# Altium integrated library Diodes - TVS.IntLib: 5379 symbols (part 77 of 122)
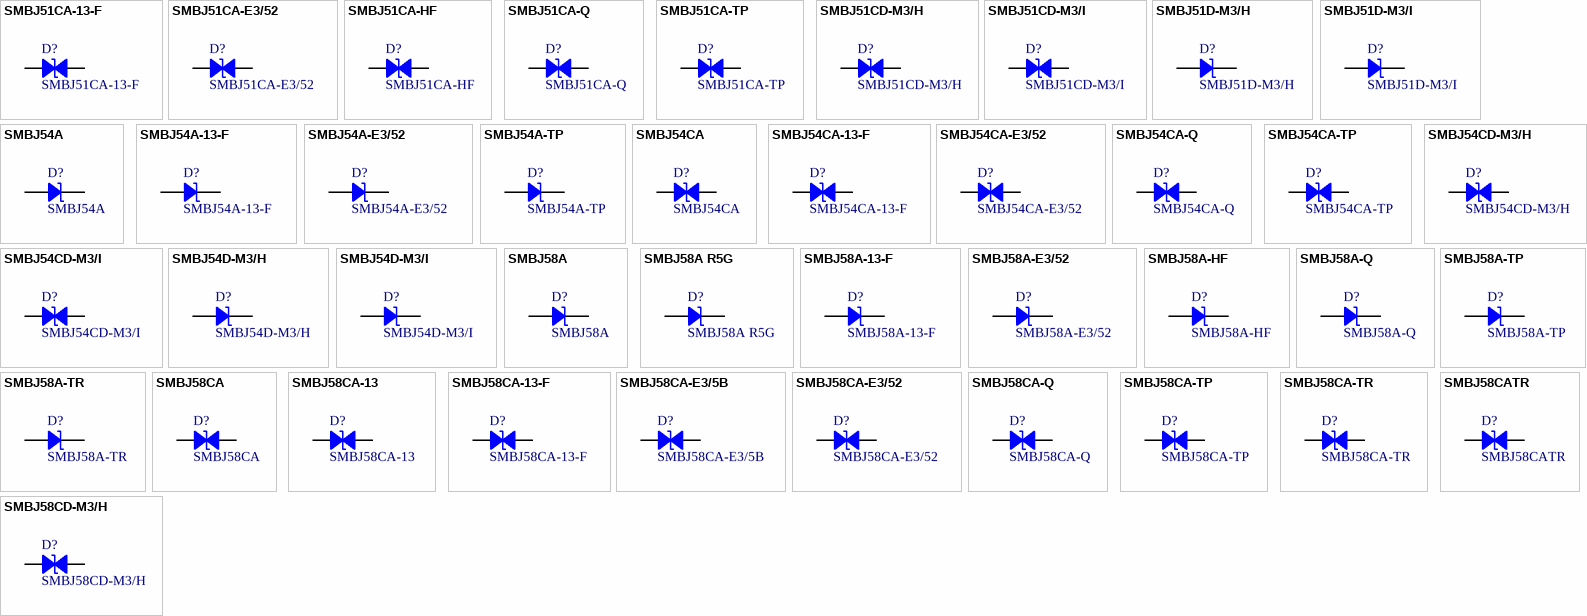
[diagram p210: symbols SMBJ51CA-13-F to SMBJ58CD-M3/H]

## SMBJ51D-M3/I
designator D?
TVS DIODE 51V 81.2V DO214AA; Manufacturer: Vishay Semiconductor Diodes Division; Current - Peak Pulse (10/1000µs): 7.4A; Power Line Protection: No; Power - Peak Pulse: 600W; Type: Zener; Unidirectional Channels: 1; Voltage - Breakdown (Min): 57.6V; Part Number: SMBJ51D-M3/I; Applications: General Purpose; ComponentLink1Description: Datasheet; ComponentLink1URL: http://www.vishay.com/docs/87606/87606.pdf; ComponentLink2Description: DigiKey Link; ComponentLink2URL: http://digikey.com/product-detail/en/vishay-semiconductor-diodes-division/SMBJ51D-M3-I/SMBJ51D-M3-IGICT-ND/9648434; LastUpdated: 9/2/2020 1:19:47 AM; Lifecycle Status: Active; Minimum Order: 1; Mounting Type: Surface Mount; Operating Temperature: -55°C ~ 150°C (TJ); Package / Case: DO-214AA, SMB; Packaging: TapeAndReel; PartId: 10960; Part Status: Active; Price: 0.11; Series: TransZorb®; Supplier 1: DigiKey; Supplier Part Number 1: SMBJ51D-M3/IGICT-ND; Supplier Device Package: DO-214AA (SMBJ); Voltage - Clamping (Max) @ Ipp: 81.2V; Voltage - Reverse Standoff (Typ): 51V
footprint DO214AA SMB
pins: 1, 2

## SMBJ54A
designator D?
TVS DIODE 54V 87.1V SMB; Manufacturer: Bourns Inc.; Current - Peak Pulse (10/1000µs): 6.9A; Power Line Protection: No; Power - Peak Pulse: 600W; Type: Zener; Unidirectional Channels: 1; Voltage - Breakdown (Min): 60V; Part Number: SMBJ54A; Applications: General Purpose; ComponentLink1Description: Datasheet; ComponentLink1URL: https://www.bourns.com/docs/Product-Datasheets/SMBJ.pdf; ComponentLink2Description: DigiKey Link; ComponentLink2URL: http://digikey.com/product-detail/en/bourns-inc/SMBJ54A/SMBJ54ABCT-ND/2254187; LastUpdated: 9/2/2020 1:19:47 AM; Lifecycle Status: Active; Minimum Order: 1; Mounting Type: Surface Mount; Operating Temperature: -55°C ~ 150°C (TJ); Package / Case: DO-214AA, SMB; Packaging: TapeAndReel; PartId: 10924; Part Status: Active; Price: 0.10; Series: SMBJ; Supplier 1: DigiKey; Supplier Part Number 1: SMBJ54ABCT-ND; Supplier Device Package: SMB (DO-214AA); Voltage - Clamping (Max) @ Ipp: 87.1V; Voltage - Reverse Standoff (Typ): 54V
footprint DO214AA SMB
pins: 1, 2

## SMBJ54A-13-F
designator D?
TVS DIODE 54V 87.1V SMB; Manufacturer: Diodes Incorporated; Current - Peak Pulse (10/1000µs): 6.9A; Power Line Protection: No; Power - Peak Pulse: 600W; Type: Zener; Unidirectional Channels: 1; Voltage - Breakdown (Min): 60V; Part Number: SMBJ54A-13-F; Applications: General Purpose; ComponentLink1Description: Datasheet; ComponentLink1URL: https://www.diodes.com/assets/Datasheets/ds19002.pdf; ComponentLink2Description: DigiKey Link; ComponentLink2URL: http://digikey.com/product-detail/en/diodes-incorporated/SMBJ54A-13-F/SMBJ54A-FDICT-ND/768845; LastUpdated: 9/2/2020 1:19:50 AM; Lifecycle Status: Active; Minimum Order: 1; Mounting Type: Surface Mount; Operating Temperature: -55°C ~ 150°C (TJ); Package / Case: DO-214AA, SMB; Packaging: TapeAndReel; PartId: 11241; Part Status: Active; Price: 0.09; Series: SMBJ; Supplier 1: DigiKey; Supplier Part Number 1: SMBJ54A-FDICT-ND; Supplier Device Package: SMB; Voltage - Clamping (Max) @ Ipp: 87.1V; Voltage - Reverse Standoff (Typ): 54V
footprint DO214AA SMB
pins: 1, 2

## SMBJ54A-E3/52
designator D?
TVS DIODE 54V 87.1V DO214AA; Manufacturer: Vishay Semiconductor Diodes Division; Current - Peak Pulse (10/1000µs): 6.9A; Power Line Protection: No; Power - Peak Pulse: 600W; Type: Zener; Unidirectional Channels: 1; Voltage - Breakdown (Min): 60V; Part Number: SMBJ54A-E3/52; Applications: General Purpose; ComponentLink1Description: Datasheet; ComponentLink1URL: http://www.vishay.com/docs/88392/smbj.pdf; ComponentLink2Description: DigiKey Link; ComponentLink2URL: http://digikey.com/product-detail/en/vishay-semiconductor-diodes-division/SMBJ54A-E3-52/SMBJ54A-E3-52GICT-ND/3306561; LastUpdated: 9/2/2020 1:19:51 AM; Lifecycle Status: Active; Minimum Order: 1; Mounting Type: Surface Mount; Operating Temperature: -55°C ~ 150°C (TJ); Package / Case: DO-214AA, SMB; Packaging: TapeAndReel; PartId: 11388; Part Status: Active; Price: 0.15; Series: TransZorb®; Supplier 1: DigiKey; Supplier Part Number 1: SMBJ54A-E3/52GICT-ND; Supplier Device Package: DO-214AA (SMBJ); Voltage - Clamping (Max) @ Ipp: 87.1V; Voltage - Reverse Standoff (Typ): 54V
footprint DO214AA SMB
pins: 1, 2

## SMBJ54A-TP
designator D?
TVS DIODE 54V 87.1V DO214AA; Manufacturer: Micro Commercial Co; Current - Peak Pulse (10/1000µs): 6.9A; Power Line Protection: No; Power - Peak Pulse: 600W; Type: Zener; Unidirectional Channels: 1; Voltage - Breakdown (Min): 60V; Part Number: SMBJ54A-TP; Applications: General Purpose; ComponentLink1Description: Datasheet; ComponentLink1URL: https://www.mccsemi.com/pdf/Products/SMBJ5.0-SMBJ440CA(DO-214AA).pdf; ComponentLink2Description: DigiKey Link; ComponentLink2URL: http://digikey.com/product-detail/en/micro-commercial-co/SMBJ54A-TP/SMBJ54A-TPMSCT-ND/1200691; LastUpdated: 9/2/2020 1:19:46 AM; Lifecycle Status: Active; Minimum Order: 1; Mounting Type: Surface Mount; Operating Temperature: -55°C ~ 175°C (TJ); Package / Case: DO-214AA, SMB; Packaging: TapeAndReel; PartId: 10855; Part Status: Active; Price: 0.10; Series: -; Supplier 1: DigiKey; Supplier Part Number 1: SMBJ54A-TPMSCT-ND; Supplier Device Package: DO-214AA (SMB); Voltage - Clamping (Max) @ Ipp: 87.1V; Voltage - Reverse Standoff (Typ): 54V
footprint DO214AA SMB
pins: 1, 2

## SMBJ54CA
designator D?
TVS DIODE 54V 87.1V DO214AA; Manufacturer: Taiwan Semiconductor Corporation; Bidirectional Channels: 1; Current - Peak Pulse (10/1000µs): 6.9A; Power Line Protection: No; Power - Peak Pulse: 600W; Type: Zener; Voltage - Breakdown (Min): 60V; Part Number: SMBJ54CA; Applications: General Purpose; ComponentLink1Description: Datasheet; ComponentLink1URL: https://www.taiwansemi.com/products/datasheet/SMBJ5V0CA_F%20SERIES_A1806.pdf; ComponentLink2Description: DigiKey Link; ComponentLink2URL: http://digikey.com/product-detail/en/taiwan-semiconductor-corporation/SMBJ54CA/SMBJ54CAFSCT-ND/3504452; LastUpdated: 9/2/2020 1:28:17 AM; Lifecycle Status: Active; Minimum Order: 1; Mounting Type: Surface Mount; Operating Temperature: -55°C ~ 150°C (TJ); Package / Case: DO-214AA, SMB; Packaging: TapeAndReel; PartId: 9065; Part Status: Active; Price: 0.15; Series: SMBJ; Supplier 1: DigiKey; Supplier Part Number 1: SMBJ54CAFSCT-ND; Supplier Device Package: DO-214AA (SMB); Voltage - Clamping (Max) @ Ipp: 87.1V; Voltage - Reverse Standoff (Typ): 54V
footprint DO214AA SMB
pins: 1, 2

## SMBJ54CA-13-F
designator D?
TVS DIODE 54V 87.1V SMB; Manufacturer: Diodes Incorporated; Bidirectional Channels: 1; Current - Peak Pulse (10/1000µs): 6.9A; Power Line Protection: No; Power - Peak Pulse: 600W; Type: Zener; Voltage - Breakdown (Min): 60V; Part Number: SMBJ54CA-13-F; Applications: General Purpose; ComponentLink1Description: Datasheet; ComponentLink1URL: https://www.diodes.com/assets/Datasheets/ds19002.pdf; ComponentLink2Description: DigiKey Link; ComponentLink2URL: http://digikey.com/product-detail/en/diodes-incorporated/SMBJ54CA-13-F/SMBJ54CA-FDICT-ND/816085; LastUpdated: 9/2/2020 1:28:18 AM; Lifecycle Status: Active; Minimum Order: 1; Mounting Type: Surface Mount; Operating Temperature: -55°C ~ 150°C (TJ); Package / Case: DO-214AA, SMB; Packaging: TapeAndReel; PartId: 9193; Part Status: Active; Price: 0.10; Series: SMBJ; Supplier 1: DigiKey; Supplier Part Number 1: SMBJ54CA-FDICT-ND; Supplier Device Package: SMB; Voltage - Clamping (Max) @ Ipp: 87.1V; Voltage - Reverse Standoff (Typ): 54V
footprint DO214AA SMB
pins: 1, 2

## SMBJ54CA-E3/52
designator D?
TVS DIODE 54V 87.1V DO214AA; Manufacturer: Vishay Semiconductor Diodes Division; Bidirectional Channels: 1; Current - Peak Pulse (10/1000µs): 6.9A; Power Line Protection: No; Power - Peak Pulse: 600W; Type: Zener; Voltage - Breakdown (Min): 60V; Part Number: SMBJ54CA-E3/52; Applications: General Purpose; ComponentLink1Description: Datasheet; ComponentLink1URL: http://www.vishay.com/docs/88392/smbj.pdf; ComponentLink2Description: DigiKey Link; ComponentLink2URL: http://digikey.com/product-detail/en/vishay-semiconductor-diodes-division/SMBJ54CA-E3-52/SMBJ54CA-E3-52GICT-ND/3306562; LastUpdated: 9/2/2020 1:28:17 AM; Lifecycle Status: Active; Minimum Order: 1; Mounting Type: Surface Mount; Operating Temperature: -55°C ~ 150°C (TJ); Package / Case: DO-214AA, SMB; Packaging: TapeAndReel; PartId: 9015; Part Status: Active; Price: 0.19; Series: TransZorb®; Supplier 1: DigiKey; Supplier Part Number 1: SMBJ54CA-E3/52GICT-ND; Supplier Device Package: DO-214AA (SMBJ); Voltage - Clamping (Max) @ Ipp: 87.1V; Voltage - Reverse Standoff (Typ): 54V
footprint DO214AA SMB
pins: 1, 2

## SMBJ54CA-Q
designator D?
TVS DIODE 54V 87.1V SMB; Manufacturer: Bourns Inc.; Bidirectional Channels: 1; Current - Peak Pulse (10/1000µs): 6.9A; Power Line Protection: No; Power - Peak Pulse: 600W; Type: Zener; Voltage - Breakdown (Min): 60V; Part Number: SMBJ54CA-Q; Applications: Automotive; ComponentLink1Description: Datasheet; ComponentLink1URL: https://www.bourns.com/docs/Product-Datasheets/SMBJ-Q.pdf; ComponentLink2Description: DigiKey Link; ComponentLink2URL: http://digikey.com/product-detail/en/bourns-inc/SMBJ54CA-Q/SMBJ54CA-QCT-ND/10222724; LastUpdated: 9/2/2020 1:28:21 AM; Lifecycle Status: Active; Minimum Order: 1; Mounting Type: Surface Mount; Operating Temperature: -55°C ~ 150°C (TJ); Package / Case: DO-214AA, SMB; Packaging: TapeAndReel; PartId: 9534; Part Status: Active; Price: 0.15; Series: Automotive, AEC-Q101, SMBJ; Supplier 1: DigiKey; Supplier Part Number 1: SMBJ54CA-QCT-ND; Supplier Device Package: SMB (DO-214AA); Voltage - Clamping (Max) @ Ipp: 87.1V; Voltage - Reverse Standoff (Typ): 54V
footprint DO214AA SMB
pins: 1, 2

## SMBJ54CA-TP
designator D?
TVS DIODE 54V 87.1V DO214AA; Manufacturer: Micro Commercial Co; Bidirectional Channels: 1; Current - Peak Pulse (10/1000µs): 6.9A; Power Line Protection: No; Power - Peak Pulse: 600W; Type: Zener; Voltage - Breakdown (Min): 60V; Part Number: SMBJ54CA-TP; Applications: General Purpose; ComponentLink1Description: Datasheet; ComponentLink1URL: https://www.mccsemi.com/pdf/Products/SMBJ5.0-SMBJ440CA(DO-214AA).pdf; ComponentLink2Description: DigiKey Link; ComponentLink2URL: http://digikey.com/product-detail/en/micro-commercial-co/SMBJ54CA-TP/SMBJ54CA-TPMSCT-ND/1200692; LastUpdated: 9/2/2020 1:28:18 AM; Lifecycle Status: Active; Minimum Order: 1; Mounting Type: Surface Mount; Operating Temperature: -55°C ~ 175°C (TJ); Package / Case: DO-214AA, SMB; Packaging: TapeAndReel; PartId: 9186; Part Status: Active; Price: 0.10; Series: -; Supplier 1: DigiKey; Supplier Part Number 1: SMBJ54CA-TPMSCT-ND; Supplier Device Package: DO-214AA (SMB); Voltage - Clamping (Max) @ Ipp: 87.1V; Voltage - Reverse Standoff (Typ): 54V
footprint DO214AA SMB
pins: 1, 2

## SMBJ54CD-M3/H
designator D?
TVS DIODE 54V 85.9V DO214AA; Manufacturer: Vishay Semiconductor Diodes Division; Bidirectional Channels: 1; Current - Peak Pulse (10/1000µs): 7A; Power Line Protection: No; Power - Peak Pulse: 600W; Type: Zener; Voltage - Breakdown (Min): 60.9V; Part Number: SMBJ54CD-M3/H; Applications: General Purpose; ComponentLink1Description: Datasheet; ComponentLink1URL: http://www.vishay.com/docs/87606/87606.pdf; ComponentLink2Description: DigiKey Link; ComponentLink2URL: http://digikey.com/product-detail/en/vishay-semiconductor-diodes-division/SMBJ54CD-M3-H/SMBJ54CD-M3-HGICT-ND/7898013; LastUpdated: 9/2/2020 1:28:17 AM; Lifecycle Status: Active; Minimum Order: 1; Mounting Type: Surface Mount; Operating Temperature: -55°C ~ 150°C (TJ); Package / Case: DO-214AA, SMB; Packaging: TapeAndReel; PartId: 9025; Part Status: Active; Price: 0.16; Series: TransZorb®; Supplier 1: DigiKey; Supplier Part Number 1: SMBJ54CD-M3/HGICT-ND; Supplier Device Package: DO-214AA (SMBJ); Voltage - Clamping (Max) @ Ipp: 85.9V; Voltage - Reverse Standoff (Typ): 54V
footprint DO214AA SMB
pins: 1, 2

## SMBJ54CD-M3/I
designator D?
TVS DIODE 54V 85.9V DO214AA; Manufacturer: Vishay Semiconductor Diodes Division; Bidirectional Channels: 1; Current - Peak Pulse (10/1000µs): 7A; Power Line Protection: No; Power - Peak Pulse: 600W; Type: Zener; Voltage - Breakdown (Min): 60.9V; Part Number: SMBJ54CD-M3/I; Applications: General Purpose; ComponentLink1Description: Datasheet; ComponentLink1URL: http://www.vishay.com/docs/87606/87606.pdf; ComponentLink2Description: DigiKey Link; ComponentLink2URL: http://digikey.com/product-detail/en/vishay-semiconductor-diodes-division/SMBJ54CD-M3-I/SMBJ54CD-M3-IGICT-ND/9648468; LastUpdated: 9/2/2020 1:28:17 AM; Lifecycle Status: Active; Minimum Order: 1; Mounting Type: Surface Mount; Operating Temperature: -55°C ~ 150°C (TJ); Package / Case: DO-214AA, SMB; Packaging: TapeAndReel; PartId: 9005; Part Status: Active; Price: 0.11; Series: TransZorb®; Supplier 1: DigiKey; Supplier Part Number 1: SMBJ54CD-M3/IGICT-ND; Supplier Device Package: DO-214AA (SMBJ); Voltage - Clamping (Max) @ Ipp: 85.9V; Voltage - Reverse Standoff (Typ): 54V
footprint DO214AA SMB
pins: 1, 2

## SMBJ54D-M3/H
designator D?
TVS DIODE 54V 85.9V DO214AA; Manufacturer: Vishay Semiconductor Diodes Division; Current - Peak Pulse (10/1000µs): 7A; Power Line Protection: No; Power - Peak Pulse: 600W; Type: Zener; Unidirectional Channels: 1; Voltage - Breakdown (Min): 60.9V; Part Number: SMBJ54D-M3/H; Applications: General Purpose; ComponentLink1Description: Datasheet; ComponentLink1URL: http://www.vishay.com/docs/87606/87606.pdf; ComponentLink2Description: DigiKey Link; ComponentLink2URL: http://digikey.com/product-detail/en/vishay-semiconductor-diodes-division/SMBJ54D-M3-H/SMBJ54D-M3-HGICT-ND/5400815; LastUpdated: 9/2/2020 1:19:43 AM; Lifecycle Status: Active; Minimum Order: 1; Mounting Type: Surface Mount; Operating Temperature: -55°C ~ 150°C (TJ); Package / Case: DO-214AA, SMB; Packaging: TapeAndReel; PartId: 10610; Part Status: Active; Price: 0.15; Series: TransZorb®; Supplier 1: DigiKey; Supplier Part Number 1: SMBJ54D-M3/HGICT-ND; Supplier Device Package: DO-214AA (SMBJ); Voltage - Clamping (Max) @ Ipp: 85.9V; Voltage - Reverse Standoff (Typ): 54V
footprint DO214AA SMB
pins: 1, 2

## SMBJ54D-M3/I
designator D?
TVS DIODE 54V 85.9V DO214AA; Manufacturer: Vishay Semiconductor Diodes Division; Current - Peak Pulse (10/1000µs): 7A; Power Line Protection: No; Power - Peak Pulse: 600W; Type: Zener; Unidirectional Channels: 1; Voltage - Breakdown (Min): 60.9V; Part Number: SMBJ54D-M3/I; Applications: General Purpose; ComponentLink1Description: Datasheet; ComponentLink1URL: http://www.vishay.com/docs/87606/87606.pdf; ComponentLink2Description: DigiKey Link; ComponentLink2URL: http://digikey.com/product-detail/en/vishay-semiconductor-diodes-division/SMBJ54D-M3-I/SMBJ54D-M3-IGICT-ND/9648435; LastUpdated: 9/2/2020 1:19:47 AM; Lifecycle Status: Active; Minimum Order: 1; Mounting Type: Surface Mount; Operating Temperature: -55°C ~ 150°C (TJ); Package / Case: DO-214AA, SMB; Packaging: TapeAndReel; PartId: 10959; Part Status: Active; Price: 0.11; Series: TransZorb®; Supplier 1: DigiKey; Supplier Part Number 1: SMBJ54D-M3/IGICT-ND; Supplier Device Package: DO-214AA (SMBJ); Voltage - Clamping (Max) @ Ipp: 85.9V; Voltage - Reverse Standoff (Typ): 54V
footprint DO214AA SMB
pins: 1, 2

## SMBJ58A
designator D?
TVS DIODE 58V 93.6V DO214AA; Manufacturer: Taiwan Semiconductor Corporation; Current - Peak Pulse (10/1000µs): 6.4A; Power Line Protection: No; Power - Peak Pulse: 600W; Type: Zener; Unidirectional Channels: 1; Voltage - Breakdown (Min): 64.4V; Part Number: SMBJ58A; Applications: General Purpose; ComponentLink1Description: Datasheet; ComponentLink1URL: https://www.taiwansemi.com/products/datasheet/SMBJ%20SERIES_P1812.pdf; ComponentLink2Description: DigiKey Link; ComponentLink2URL: http://digikey.com/product-detail/en/taiwan-semiconductor-corporation/SMBJ58A/SMBJ58AFSCT-ND/3504301; LastUpdated: 9/2/2020 1:19:49 AM; Lifecycle Status: Active; Minimum Order: 1; Mounting Type: Surface Mount; Operating Temperature: -55°C ~ 150°C (TJ); Package / Case: DO-214AA, SMB; Packaging: TapeAndReel; PartId: 11136; Part Status: Active; Price: 0.11; Series: SMBJ; Supplier 1: DigiKey; Supplier Part Number 1: SMBJ58AFSCT-ND; Supplier Device Package: DO-214AA (SMB); Voltage - Clamping (Max) @ Ipp: 93.6V; Voltage - Reverse Standoff (Typ): 58V
footprint DO214AA SMB
pins: 1, 2

## SMBJ58A R5G
designator D?
TVS DIODE 58V 93.6V DO214AA; Manufacturer: Taiwan Semiconductor Corporation; Current - Peak Pulse (10/1000µs): 6.7A; Power Line Protection: No; Power - Peak Pulse: 600W; Type: Zener; Unidirectional Channels: 1; Voltage - Breakdown (Min): 64.4V; Part Number: SMBJ58A R5G; Applications: General Purpose; ComponentLink1Description: Datasheet; ComponentLink1URL: https://www.taiwansemi.com/products/datasheet/SMBJ%20SERIES_P1812.pdf; ComponentLink2Description: DigiKey Link; ComponentLink2URL: http://digikey.com/product-detail/en/taiwan-semiconductor-corporation/SMBJ58A-R5G/SMBJ58AR5GCT-ND/7359177; LastUpdated: 9/2/2020 1:19:51 AM; Lifecycle Status: Active; Minimum Order: 1; Mounting Type: Surface Mount; Operating Temperature: -55°C ~ 150°C (TJ); Package / Case: DO-214AA, SMB; Packaging: TapeAndReel; PartId: 11313; Part Status: Active; Price: 0.20; Series: SMBJ; Supplier 1: DigiKey; Supplier Part Number 1: SMBJ58AR5GCT-ND; Supplier Device Package: DO-214AA (SMB); Voltage - Clamping (Max) @ Ipp: 93.6V; Voltage - Reverse Standoff (Typ): 58V
footprint DO214AA SMB
pins: 1, 2

## SMBJ58A-13-F
designator D?
TVS DIODE 58V 93.6V SMB; Manufacturer: Diodes Incorporated; Current - Peak Pulse (10/1000µs): 6.4A; Power Line Protection: No; Power - Peak Pulse: 600W; Type: Zener; Unidirectional Channels: 1; Voltage - Breakdown (Min): 64.4V; Part Number: SMBJ58A-13-F; Applications: General Purpose; ComponentLink1Description: Datasheet; ComponentLink1URL: https://www.diodes.com/assets/Datasheets/ds19002.pdf; ComponentLink2Description: DigiKey Link; ComponentLink2URL: http://digikey.com/product-detail/en/diodes-incorporated/SMBJ58A-13-F/SMBJ58A-FDICT-ND/816086; LastUpdated: 9/2/2020 1:19:46 AM; Lifecycle Status: Active; Minimum Order: 1; Mounting Type: Surface Mount; Operating Temperature: -55°C ~ 150°C (TJ); Package / Case: DO-214AA, SMB; Packaging: TapeAndReel; PartId: 10831; Part Status: Active; Price: 0.09; Series: SMBJ; Supplier 1: DigiKey; Supplier Part Number 1: SMBJ58A-FDICT-ND; Supplier Device Package: SMB; Voltage - Clamping (Max) @ Ipp: 93.6V; Voltage - Reverse Standoff (Typ): 58V
footprint DO214AA SMB
pins: 1, 2

## SMBJ58A-E3/52
designator D?
TVS DIODE 58V 93.6V DO214AA; Manufacturer: Vishay Semiconductor Diodes Division; Current - Peak Pulse (10/1000µs): 6.4A; Power Line Protection: No; Power - Peak Pulse: 600W; Type: Zener; Unidirectional Channels: 1; Voltage - Breakdown (Min): 64.4V; Part Number: SMBJ58A-E3/52; Applications: General Purpose; ComponentLink1Description: Datasheet; ComponentLink1URL: http://www.vishay.com/docs/88392/smbj.pdf; ComponentLink2Description: DigiKey Link; ComponentLink2URL: http://digikey.com/product-detail/en/vishay-semiconductor-diodes-division/SMBJ58A-E3-52/SMBJ58A-E3-52GICT-ND/2413395; LastUpdated: 9/2/2020 1:19:49 AM; Lifecycle Status: Active; Minimum Order: 1; Mounting Type: Surface Mount; Operating Temperature: -55°C ~ 150°C (TJ); Package / Case: DO-214AA, SMB; Packaging: TapeAndReel; PartId: 11109; Part Status: Active; Price: 0.15; Series: TransZorb®; Supplier 1: DigiKey; Supplier Part Number 1: SMBJ58A-E3/52GICT-ND; Supplier Device Package: DO-214AA (SMBJ); Voltage - Clamping (Max) @ Ipp: 93.6V; Voltage - Reverse Standoff (Typ): 58V
footprint DO214AA SMB
pins: 1, 2

## SMBJ58A-HF
designator D?
DIODE TVS 58V 600W SMB UNI-DIR; Manufacturer: Comchip Technology; Current - Peak Pulse (10/1000µs): 6.4A; Power Line Protection: No; Type: Zener; Unidirectional Channels: 1; Voltage - Breakdown (Min): 64.4V; Voltage - Clamping (Max) @ Ipp: 93.6V; Part Number: SMBJ58A-HF; Applications: General Purpose; ComponentLink1Description: Datasheet; ComponentLink1URL: http://www.comchiptech.com/admin/files/product/20190409161655.PDF; ComponentLink2Description: DigiKey Link; ComponentLink2URL: http://digikey.com/product-detail/en/comchip-technology/SMBJ58A-HF/641-2113-1-ND/10223584; LastUpdated: 9/2/2020 1:19:51 AM; Lifecycle Status: Active; Minimum Order: 1; Mounting Type: Surface Mount; Operating Temperature: -55°C ~ 150°C (TJ); Package / Case: DO-214AA, SMB; Packaging: TapeAndReel; PartId: 11369; Part Status: Active; Power - Peak Pulse: 600W; Price: 0.09; Series: -; Supplier 1: DigiKey; Supplier Part Number 1: 641-2113-1-ND; Supplier Device Package: DO-214AA (SMB); Voltage - Reverse Standoff (Typ): 58V
footprint DO214AA SMB
pins: 1, 2

## SMBJ58A-Q
designator D?
TVS DIODE 58V 93.6V SMB; Manufacturer: Bourns Inc.; Current - Peak Pulse (10/1000µs): 6.5A; Power Line Protection: No; Power - Peak Pulse: 600W; Type: Zener; Unidirectional Channels: 1; Voltage - Breakdown (Min): 64.4V; Part Number: SMBJ58A-Q; Applications: Automotive; ComponentLink1Description: Datasheet; ComponentLink1URL: https://www.bourns.com/docs/Product-Datasheets/SMBJ-Q.pdf; ComponentLink2Description: DigiKey Link; ComponentLink2URL: http://digikey.com/product-detail/en/bourns-inc/SMBJ58A-Q/SMBJ58A-QCT-ND/10222725; LastUpdated: 9/2/2020 1:19:44 AM; Lifecycle Status: Active; Minimum Order: 1; Mounting Type: Surface Mount; Operating Temperature: -55°C ~ 150°C (TJ); Package / Case: DO-214AA, SMB; Packaging: TapeAndReel; PartId: 10704; Part Status: Active; Price: 0.14; Series: Automotive, AEC-Q101, SMBJ; Supplier 1: DigiKey; Supplier Part Number 1: SMBJ58A-QCT-ND; Supplier Device Package: SMB (DO-214AA); Voltage - Clamping (Max) @ Ipp: 93.6V; Voltage - Reverse Standoff (Typ): 58V
footprint DO214AA SMB
pins: 1, 2

## SMBJ58A-TP
designator D?
TVS DIODE 58V 93.6V DO214AA; Manufacturer: Micro Commercial Co; Current - Peak Pulse (10/1000µs): 6.4A; Power Line Protection: No; Power - Peak Pulse: 600W; Type: Zener; Unidirectional Channels: 1; Voltage - Breakdown (Min): 64.4V; Part Number: SMBJ58A-TP; Applications: General Purpose; ComponentLink1Description: Datasheet; ComponentLink1URL: https://www.mccsemi.com/pdf/Products/SMBJ5.0-SMBJ440CA(DO-214AA).pdf; ComponentLink2Description: DigiKey Link; ComponentLink2URL: http://digikey.com/product-detail/en/micro-commercial-co/SMBJ58A-TP/SMBJ58A-TPMSCT-ND/1200693; LastUpdated: 9/2/2020 1:19:48 AM; Lifecycle Status: Active; Minimum Order: 1; Mounting Type: Surface Mount; Operating Temperature: -55°C ~ 175°C (TJ); Package / Case: DO-214AA, SMB; Packaging: TapeAndReel; PartId: 11067; Part Status: Active; Price: 0.10; Series: -; Supplier 1: DigiKey; Supplier Part Number 1: SMBJ58A-TPMSCT-ND; Supplier Device Package: DO-214AA (SMB); Voltage - Clamping (Max) @ Ipp: 93.6V; Voltage - Reverse Standoff (Typ): 58V
footprint DO214AA SMB
pins: 1, 2

## SMBJ58A-TR
designator D?
TVS DIODE 58V 121V SMB; Manufacturer: STMicroelectronics; Current - Peak Pulse (10/1000µs): 6.7A; Power Line Protection: No; Power - Peak Pulse: 600W; Type: Zener; Unidirectional Channels: 1; Voltage - Breakdown (Min): 64.4V; Voltage - Clamping (Max) @ Ipp: 93.6V; Part Number: SMBJ58A-TR; Applications: General Purpose; ComponentLink1Description: Datasheet; ComponentLink1URL: http://www.st.com/content/ccc/resource/technical/document/datasheet/19/78/91/39/07/cd/40/65/CD00001366.pdf/files/CD00001366.pdf/_jcr_content/translations/en.CD00001366.pdf; ComponentLink2Description: DigiKey Link; ComponentLink2URL: http://digikey.com/product-detail/en/stmicroelectronics/SMBJ58A-TR/497-15659-1-ND/5253757; LastUpdated: 9/2/2020 1:19:50 AM; Lifecycle Status: Active; Minimum Order: 1; Mounting Type: Surface Mount; Operating Temperature: -55°C ~ 150°C (TJ); Package / Case: DO-214AA, SMB; Packaging: TapeAndReel; PartId: 11224; Part Status: Active; Price: 0.10; Series: SMBJ, TRANSIL™; Supplier 1: DigiKey; Supplier Part Number 1: 497-15659-1-ND; Supplier Device Package: SMB (DO-214AA); Voltage - Reverse Standoff (Typ): 58V
footprint DO214AA SMB
pins: 1, 2

## SMBJ58CA
designator D?
TVS DIODE 58V 93.6V DO214AA; Manufacturer: Taiwan Semiconductor Corporation; Bidirectional Channels: 1; Current - Peak Pulse (10/1000µs): 6.4A; Power Line Protection: No; Power - Peak Pulse: 600W; Type: Zener; Voltage - Breakdown (Min): 64.4V; Part Number: SMBJ58CA; Applications: General Purpose; ComponentLink1Description: Datasheet; ComponentLink1URL: https://www.taiwansemi.com/products/datasheet/SMBJ5V0CA_F%20SERIES_A1806.pdf; ComponentLink2Description: DigiKey Link; ComponentLink2URL: http://digikey.com/product-detail/en/taiwan-semiconductor-corporation/SMBJ58CA/SMBJ58CAFSCT-ND/3504399; LastUpdated: 9/2/2020 1:28:17 AM; Lifecycle Status: Active; Minimum Order: 1; Mounting Type: Surface Mount; Operating Temperature: -55°C ~ 150°C (TJ); Package / Case: DO-214AA, SMB; Packaging: TapeAndReel; PartId: 9052; Part Status: Active; Price: 0.17; Series: SMBJ; Supplier 1: DigiKey; Supplier Part Number 1: SMBJ58CAFSCT-ND; Supplier Device Package: DO-214AA (SMB); Voltage - Clamping (Max) @ Ipp: 93.6V; Voltage - Reverse Standoff (Typ): 58V
footprint DO214AA SMB
pins: 1, 2

## SMBJ58CA-13
designator D?
TVS DIODE 58V 93.6V SMB; Manufacturer: Diodes Incorporated; Bidirectional Channels: 1; Current - Peak Pulse (10/1000µs): 6.4A; Power Line Protection: No; Power - Peak Pulse: 600W; Type: Zener; Voltage - Breakdown (Min): 64.4V; Part Number: SMBJ58CA-13; Applications: General Purpose; ComponentLink1Description: Datasheet; ComponentLink1URL: //media.digikey.com/pdf/Data%20Sheets/Diodes%20PDFs/SMBJ5.0(C)A~SMBJ170(C)A.pdf; ComponentLink2Description: DigiKey Link; ComponentLink2URL: http://digikey.com/product-detail/en/diodes-incorporated/SMBJ58CA-13/SMBJ58CADITR-ND/350222; LastUpdated: 9/2/2020 1:28:15 AM; Lifecycle Status: Active; Minimum Order: 0; Mounting Type: Surface Mount; Operating Temperature: -55°C ~ 150°C (TJ); Package / Case: DO-214AA, SMB; Packaging: TapeAndReel; PartId: 8839; Part Status: Active; Price: 0.18; Series: SMBJ; Supplier 1: DigiKey; Supplier Part Number 1: SMBJ58CADITR-ND; Supplier Device Package: SMB; Voltage - Clamping (Max) @ Ipp: 93.6V; Voltage - Reverse Standoff (Typ): 58V
footprint DO214AA SMB
pins: 1, 2

## SMBJ58CA-13-F
designator D?
TVS DIODE 58V 93.6V SMB; Manufacturer: Diodes Incorporated; Bidirectional Channels: 1; Current - Peak Pulse (10/1000µs): 6.4A; Power Line Protection: No; Power - Peak Pulse: 600W; Type: Zener; Voltage - Breakdown (Min): 64.4V; Part Number: SMBJ58CA-13-F; Applications: General Purpose; ComponentLink1Description: Datasheet; ComponentLink1URL: https://www.diodes.com/assets/Datasheets/ds19002.pdf; ComponentLink2Description: DigiKey Link; ComponentLink2URL: http://digikey.com/product-detail/en/diodes-incorporated/SMBJ58CA-13-F/SMBJ58CA-FDICT-ND/816087; LastUpdated: 9/2/2020 1:28:19 AM; Lifecycle Status: Active; Minimum Order: 1; Mounting Type: Surface Mount; Operating Temperature: -55°C ~ 150°C (TJ); Package / Case: DO-214AA, SMB; Packaging: TapeAndReel; PartId: 9290; Part Status: Active; Price: 0.10; Series: SMBJ; Supplier 1: DigiKey; Supplier Part Number 1: SMBJ58CA-FDICT-ND; Supplier Device Package: SMB; Voltage - Clamping (Max) @ Ipp: 93.6V; Voltage - Reverse Standoff (Typ): 58V
footprint DO214AA SMB
pins: 1, 2

## SMBJ58CA-E3/5B
designator D?
TVS DIODE 58V 93.6V DO214AA; Manufacturer: Vishay Semiconductor Diodes Division; Bidirectional Channels: 1; Current - Peak Pulse (10/1000µs): 6.4A; Power Line Protection: No; Power - Peak Pulse: 600W; Type: Zener; Voltage - Breakdown (Min): 64.4V; Part Number: SMBJ58CA-E3/5B; Applications: General Purpose; ComponentLink1Description: Datasheet; ComponentLink1URL: http://www.vishay.com/docs/88392/smbj.pdf; ComponentLink2Description: DigiKey Link; ComponentLink2URL: http://digikey.com/product-detail/en/vishay-semiconductor-diodes-division/SMBJ58CA-E3-5B/SMBJ58CA-E3-5BGICT-ND/7915521; LastUpdated: 9/2/2020 1:28:19 AM; Lifecycle Status: Active; Minimum Order: 1; Mounting Type: Surface Mount; Operating Temperature: -55°C ~ 150°C (TJ); Package / Case: DO-214AA, SMB; Packaging: TapeAndReel; PartId: 9225; Part Status: Active; Price: 0.12; Series: TransZorb®; Supplier 1: DigiKey; Supplier Part Number 1: SMBJ58CA-E3/5BGICT-ND; Supplier Device Package: DO-214AA (SMBJ); Voltage - Clamping (Max) @ Ipp: 93.6V; Voltage - Reverse Standoff (Typ): 58V
footprint DO214AA SMB
pins: 1, 2

## SMBJ58CA-E3/52
designator D?
TVS DIODE 58V 93.6V DO214AA; Manufacturer: Vishay Semiconductor Diodes Division; Bidirectional Channels: 1; Current - Peak Pulse (10/1000µs): 6.4A; Power Line Protection: No; Power - Peak Pulse: 600W; Type: Zener; Voltage - Breakdown (Min): 64.4V; Part Number: SMBJ58CA-E3/52; Applications: General Purpose; ComponentLink1Description: Datasheet; ComponentLink1URL: http://www.vishay.com/docs/88392/smbj.pdf; ComponentLink2Description: DigiKey Link; ComponentLink2URL: http://digikey.com/product-detail/en/vishay-semiconductor-diodes-division/SMBJ58CA-E3-52/SMBJ58CA-E3-52GICT-ND/2413472; LastUpdated: 9/2/2020 1:28:18 AM; Lifecycle Status: Active; Minimum Order: 1; Mounting Type: Surface Mount; Operating Temperature: -55°C ~ 150°C (TJ); Package / Case: DO-214AA, SMB; Packaging: TapeAndReel; PartId: 9119; Part Status: Active; Price: 0.19; Series: TransZorb®; Supplier 1: DigiKey; Supplier Part Number 1: SMBJ58CA-E3/52GICT-ND; Supplier Device Package: DO-214AA (SMBJ); Voltage - Clamping (Max) @ Ipp: 93.6V; Voltage - Reverse Standoff (Typ): 58V
footprint DO214AA SMB
pins: 1, 2

## SMBJ58CA-Q
designator D?
TVS DIODE 58V 93.6V SMB; Manufacturer: Bourns Inc.; Bidirectional Channels: 1; Current - Peak Pulse (10/1000µs): 6.5A; Power Line Protection: No; Power - Peak Pulse: 600W; Type: Zener; Voltage - Breakdown (Min): 64.4V; Part Number: SMBJ58CA-Q; Applications: Automotive; ComponentLink1Description: Datasheet; ComponentLink1URL: https://www.bourns.com/docs/Product-Datasheets/SMBJ-Q.pdf; ComponentLink2Description: DigiKey Link; ComponentLink2URL: http://digikey.com/product-detail/en/bourns-inc/SMBJ58CA-Q/SMBJ58CA-QCT-ND/10222726; LastUpdated: 9/2/2020 1:28:21 AM; Lifecycle Status: Active; Minimum Order: 1; Mounting Type: Surface Mount; Operating Temperature: -55°C ~ 150°C (TJ); Package / Case: DO-214AA, SMB; Packaging: TapeAndReel; PartId: 9541; Part Status: Active; Price: 0.15; Series: Automotive, AEC-Q101, SMBJ; Supplier 1: DigiKey; Supplier Part Number 1: SMBJ58CA-QCT-ND; Supplier Device Package: SMB (DO-214AA); Voltage - Clamping (Max) @ Ipp: 93.6V; Voltage - Reverse Standoff (Typ): 58V
footprint DO214AA SMB
pins: 1, 2

## SMBJ58CA-TP
designator D?
TVS DIODE 58V 93.6V DO214AA; Manufacturer: Micro Commercial Co; Bidirectional Channels: 1; Current - Peak Pulse (10/1000µs): 6.4A; Power Line Protection: No; Power - Peak Pulse: 600W; Type: Zener; Voltage - Breakdown (Min): 64.4V; Part Number: SMBJ58CA-TP; Applications: General Purpose; ComponentLink1Description: Datasheet; ComponentLink1URL: https://www.mccsemi.com/pdf/Products/SMBJ5.0-SMBJ440CA(DO-214AA).pdf; ComponentLink2Description: DigiKey Link; ComponentLink2URL: http://digikey.com/product-detail/en/micro-commercial-co/SMBJ58CA-TP/SMBJ58CA-TPMSCT-ND/1200694; LastUpdated: 9/2/2020 1:28:18 AM; Lifecycle Status: Active; Minimum Order: 1; Mounting Type: Surface Mount; Operating Temperature: -55°C ~ 175°C (TJ); Package / Case: DO-214AA, SMB; Packaging: TapeAndReel; PartId: 9198; Part Status: Active; Price: 0.10; Series: -; Supplier 1: DigiKey; Supplier Part Number 1: SMBJ58CA-TPMSCT-ND; Supplier Device Package: DO-214AA (SMB); Voltage - Clamping (Max) @ Ipp: 93.6V; Voltage - Reverse Standoff (Typ): 58V
footprint DO214AA SMB
pins: 1, 2

## SMBJ58CA-TR
designator D?
TVS DIODE 58V 121V SMB; Manufacturer: STMicroelectronics; Bidirectional Channels: 1; Current - Peak Pulse (10/1000µs): 6.7A; Power Line Protection: No; Power - Peak Pulse: 600W; Type: Zener; Voltage - Breakdown (Min): 64.4V; Voltage - Clamping (Max) @ Ipp: 93.6V; Part Number: SMBJ58CA-TR; Applications: General Purpose; ComponentLink1Description: Datasheet; ComponentLink1URL: http://www.st.com/content/ccc/resource/technical/document/datasheet/19/78/91/39/07/cd/40/65/CD00001366.pdf/files/CD00001366.pdf/_jcr_content/translations/en.CD00001366.pdf; ComponentLink2Description: DigiKey Link; ComponentLink2URL: http://digikey.com/product-detail/en/stmicroelectronics/SMBJ58CA-TR/497-3143-1-ND/654462; LastUpdated: 9/2/2020 1:28:19 AM; Lifecycle Status: Active; Minimum Order: 1; Mounting Type: Surface Mount; Operating Temperature: -55°C ~ 150°C (TJ); Package / Case: DO-214AA, SMB; Packaging: TapeAndReel; PartId: 9255; Part Status: Active; Price: 0.10; Series: SMBJ, TRANSIL™; Supplier 1: DigiKey; Supplier Part Number 1: 497-3143-1-ND; Supplier Device Package: SMB (DO-214AA); Voltage - Reverse Standoff (Typ): 58V
footprint DO214AA SMB
pins: 1, 2

## SMBJ58CATR
designator D?
TVS DIODE 58V 93.6V SMB; Manufacturer: SMC Diode Solutions; Bidirectional Channels: 1; Current - Peak Pulse (10/1000µs): 6.4A; Power Line Protection: No; Power - Peak Pulse: 600W; Type: Zener; Voltage - Breakdown (Min): 64.4V; Part Number: SMBJ58CATR; Applications: General Purpose; ComponentLink1Description: Datasheet; ComponentLink1URL: http://www.smc-diodes.com/propdf/SMBJ%20SERIES%20N0193%20REV.D.pdf; ComponentLink2Description: DigiKey Link; ComponentLink2URL: http://digikey.com/product-detail/en/smc-diode-solutions/SMBJ58CATR/1655-1637-1-ND/6023082; LastUpdated: 9/2/2020 1:28:17 AM; Lifecycle Status: Active; Minimum Order: 1; Mounting Type: Surface Mount; Operating Temperature: -55°C ~ 150°C (TJ); Package / Case: DO-214AA, SMB; Packaging: TapeAndReel; PartId: 9008; Part Status: Active; Price: 0.09; Series: SMBJ; Supplier 1: DigiKey; Supplier Part Number 1: 1655-1637-1-ND; Supplier Device Package: SMB (DO-214AA); Voltage - Clamping (Max) @ Ipp: 93.6V; Voltage - Reverse Standoff (Typ): 58V
footprint DO214AA SMB
pins: 1, 2

## SMBJ58CD-M3/H
designator D?
TVS DIODE 58V 92.3V DO214AA; Manufacturer: Vishay Semiconductor Diodes Division; Bidirectional Channels: 1; Current - Peak Pulse (10/1000µs): 6.5A; Power Line Protection: No; Power - Peak Pulse: 600W; Type: Zener; Voltage - Breakdown (Min): 65.4V; Part Number: SMBJ58CD-M3/H; Applications: General Purpose; ComponentLink1Description: Datasheet; ComponentLink1URL: http://www.vishay.com/docs/87606/87606.pdf; ComponentLink2Description: DigiKey Link; ComponentLink2URL: http://digikey.com/product-detail/en/vishay-semiconductor-diodes-division/SMBJ58CD-M3-H/SMBJ58CD-M3-HGICT-ND/7898011; LastUpdated: 9/2/2020 1:28:20 AM; Lifecycle Status: Active; Minimum Order: 1; Mounting Type: Surface Mount; Operating Temperature: -55°C ~ 150°C (TJ); Package / Case: DO-214AA, SMB; Packaging: TapeAndReel; PartId: 9367; Part Status: Active; Price: 0.16; Series: TransZorb®; Supplier 1: DigiKey; Supplier Part Number 1: SMBJ58CD-M3/HGICT-ND; Supplier Device Package: DO-214AA (SMBJ); Voltage - Clamping (Max) @ Ipp: 92.3V; Voltage - Reverse Standoff (Typ): 58V
footprint DO214AA SMB
pins: 1, 2

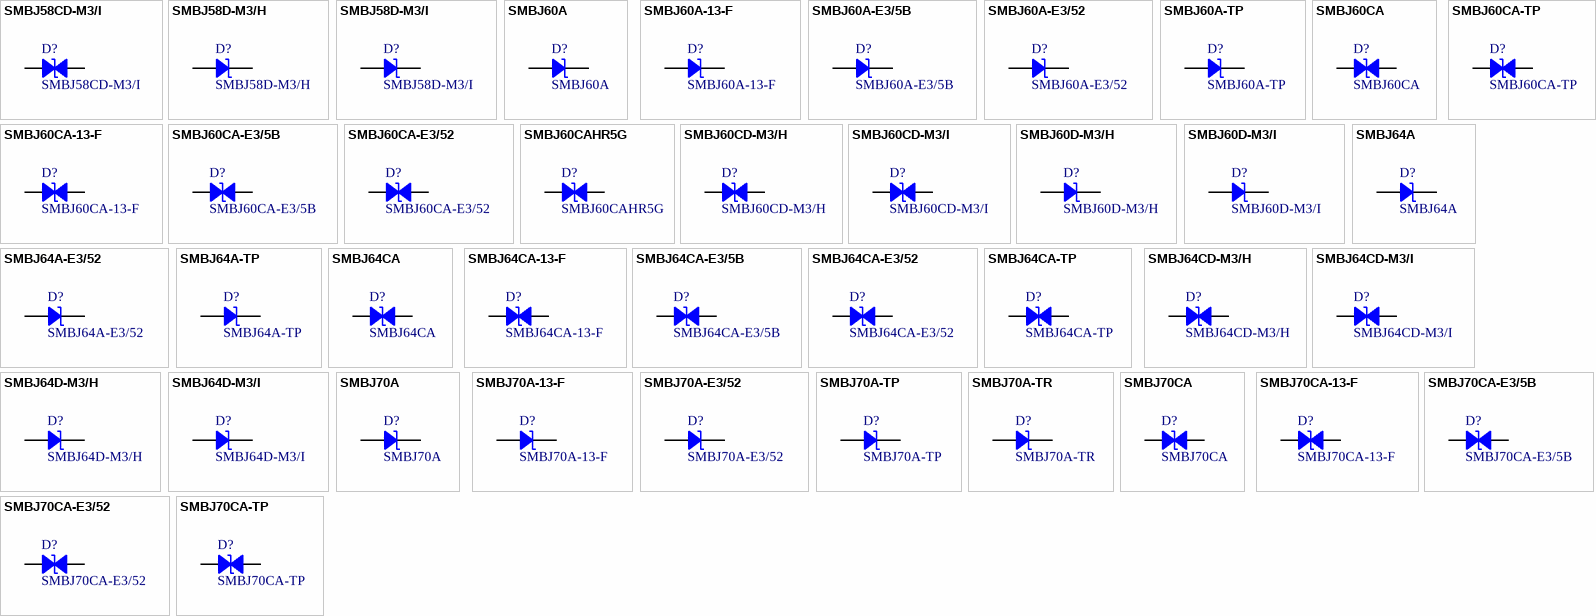
[diagram p85: symbols SMBJ58CD-M3/I to SMBJ70CA-TP]

## SMBJ58CD-M3/I
designator D?
TVS DIODE 58V 92.3V DO214AA; Manufacturer: Vishay Semiconductor Diodes Division; Bidirectional Channels: 1; Current - Peak Pulse (10/1000µs): 6.5A; Power Line Protection: No; Power - Peak Pulse: 600W; Type: Zener; Voltage - Breakdown (Min): 65.4V; Part Number: SMBJ58CD-M3/I; Applications: General Purpose; ComponentLink1Description: Datasheet; ComponentLink1URL: http://www.vishay.com/docs/87606/87606.pdf; ComponentLink2Description: DigiKey Link; ComponentLink2URL: http://digikey.com/product-detail/en/vishay-semiconductor-diodes-division/SMBJ58CD-M3-I/SMBJ58CD-M3-IGICT-ND/7915522; LastUpdated: 9/2/2020 1:28:16 AM; Lifecycle Status: Active; Minimum Order: 1; Mounting Type: Surface Mount; Operating Temperature: -55°C ~ 150°C (TJ); Package / Case: DO-214AA, SMB; Packaging: TapeAndReel; PartId: 8997; Part Status: Active; Price: 0.11; Series: TransZorb®; Supplier 1: DigiKey; Supplier Part Number 1: SMBJ58CD-M3/IGICT-ND; Supplier Device Package: DO-214AA (SMBJ); Voltage - Clamping (Max) @ Ipp: 92.3V; Voltage - Reverse Standoff (Typ): 58V
footprint DO214AA SMB
pins: 1, 2

## SMBJ58D-M3/H
designator D?
TVS DIODE 58V 92.3V DO214AA; Manufacturer: Vishay Semiconductor Diodes Division; Current - Peak Pulse (10/1000µs): 6.5A; Power Line Protection: No; Power - Peak Pulse: 600W; Type: Zener; Unidirectional Channels: 1; Voltage - Breakdown (Min): 65.4V; Part Number: SMBJ58D-M3/H; Applications: General Purpose; ComponentLink1Description: Datasheet; ComponentLink1URL: http://www.vishay.com/docs/87606/87606.pdf; ComponentLink2Description: DigiKey Link; ComponentLink2URL: http://digikey.com/product-detail/en/vishay-semiconductor-diodes-division/SMBJ58D-M3-H/SMBJ58D-M3-HGICT-ND/5253078; LastUpdated: 9/2/2020 1:19:48 AM; Lifecycle Status: Active; Minimum Order: 1; Mounting Type: Surface Mount; Operating Temperature: -55°C ~ 150°C (TJ); Package / Case: DO-214AA, SMB; Packaging: TapeAndReel; PartId: 11040; Part Status: Active; Price: 0.15; Series: TransZorb®; Supplier 1: DigiKey; Supplier Part Number 1: SMBJ58D-M3/HGICT-ND; Supplier Device Package: DO-214AA (SMBJ); Voltage - Clamping (Max) @ Ipp: 92.3V; Voltage - Reverse Standoff (Typ): 58V
footprint DO214AA SMB
pins: 1, 2

## SMBJ58D-M3/I
designator D?
TVS DIODE 58V 92.3V DO214AA; Manufacturer: Vishay Semiconductor Diodes Division; Current - Peak Pulse (10/1000µs): 6.5A; Power Line Protection: No; Power - Peak Pulse: 600W; Type: Zener; Unidirectional Channels: 1; Voltage - Breakdown (Min): 65.4V; Part Number: SMBJ58D-M3/I; Applications: General Purpose; ComponentLink1Description: Datasheet; ComponentLink1URL: http://www.vishay.com/docs/87606/87606.pdf; ComponentLink2Description: DigiKey Link; ComponentLink2URL: http://digikey.com/product-detail/en/vishay-semiconductor-diodes-division/SMBJ58D-M3-I/SMBJ58D-M3-IGICT-ND/9648436; LastUpdated: 9/2/2020 1:19:47 AM; Lifecycle Status: Active; Minimum Order: 1; Mounting Type: Surface Mount; Operating Temperature: -55°C ~ 150°C (TJ); Package / Case: DO-214AA, SMB; Packaging: TapeAndReel; PartId: 10958; Part Status: Active; Price: 0.11; Series: TransZorb®; Supplier 1: DigiKey; Supplier Part Number 1: SMBJ58D-M3/IGICT-ND; Supplier Device Package: DO-214AA (SMBJ); Voltage - Clamping (Max) @ Ipp: 92.3V; Voltage - Reverse Standoff (Typ): 58V
footprint DO214AA SMB
pins: 1, 2

## SMBJ60A
designator D?
TVS DIODE 60V 96.8V DO214AA; Manufacturer: Taiwan Semiconductor Corporation; Current - Peak Pulse (10/1000µs): 6.2A; Power Line Protection: No; Power - Peak Pulse: 600W; Type: Zener; Unidirectional Channels: 1; Voltage - Breakdown (Min): 66.7V; Part Number: SMBJ60A; Applications: General Purpose; ComponentLink1Description: Datasheet; ComponentLink1URL: https://www.taiwansemi.com/products/datasheet/SMBJ%20SERIES_P1812.pdf; ComponentLink2Description: DigiKey Link; ComponentLink2URL: http://digikey.com/product-detail/en/taiwan-semiconductor-corporation/SMBJ60A/SMBJ60AFSCT-ND/3504438; LastUpdated: 9/2/2020 1:19:45 AM; Lifecycle Status: Active; Minimum Order: 1; Mounting Type: Surface Mount; Operating Temperature: -55°C ~ 150°C (TJ); Package / Case: DO-214AA, SMB; Packaging: TapeAndReel; PartId: 10718; Part Status: Active; Price: 0.15; Series: SMBJ; Supplier 1: DigiKey; Supplier Part Number 1: SMBJ60AFSCT-ND; Supplier Device Package: DO-214AA (SMB); Voltage - Clamping (Max) @ Ipp: 96.8V; Voltage - Reverse Standoff (Typ): 60V
footprint DO214AA SMB
pins: 1, 2

## SMBJ60A-13-F
designator D?
TVS DIODE 60V 96.8V SMB; Manufacturer: Diodes Incorporated; Current - Peak Pulse (10/1000µs): 6.2A; Power Line Protection: No; Power - Peak Pulse: 600W; Type: Zener; Unidirectional Channels: 1; Voltage - Breakdown (Min): 66.7V; Part Number: SMBJ60A-13-F; Applications: General Purpose; ComponentLink1Description: Datasheet; ComponentLink1URL: https://www.diodes.com/assets/Datasheets/ds19002.pdf; ComponentLink2Description: DigiKey Link; ComponentLink2URL: http://digikey.com/product-detail/en/diodes-incorporated/SMBJ60A-13-F/SMBJ60A-FDICT-ND/816088; LastUpdated: 9/2/2020 1:19:50 AM; Lifecycle Status: Active; Minimum Order: 1; Mounting Type: Surface Mount; Operating Temperature: -55°C ~ 150°C (TJ); Package / Case: DO-214AA, SMB; Packaging: TapeAndReel; PartId: 11245; Part Status: Active; Price: 0.09; Series: SMBJ; Supplier 1: DigiKey; Supplier Part Number 1: SMBJ60A-FDICT-ND; Supplier Device Package: SMB; Voltage - Clamping (Max) @ Ipp: 96.8V; Voltage - Reverse Standoff (Typ): 60V
footprint DO214AA SMB
pins: 1, 2

## SMBJ60A-E3/5B
designator D?
TVS DIODE 60V 96.8V DO214AA; Manufacturer: Vishay Semiconductor Diodes Division; Current - Peak Pulse (10/1000µs): 6.2A; Power Line Protection: No; Power - Peak Pulse: 600W; Type: Zener; Unidirectional Channels: 1; Voltage - Breakdown (Min): 66.7V; Part Number: SMBJ60A-E3/5B; Applications: General Purpose; ComponentLink1Description: Datasheet; ComponentLink1URL: http://www.vishay.com/docs/88392/smbj.pdf; ComponentLink2Description: DigiKey Link; ComponentLink2URL: http://digikey.com/product-detail/en/vishay-semiconductor-diodes-division/SMBJ60A-E3-5B/SMBJ60A-E3-5BGICT-ND/9601098; LastUpdated: 9/2/2020 1:19:43 AM; Lifecycle Status: Active; Minimum Order: 1; Mounting Type: Surface Mount; Operating Temperature: -55°C ~ 150°C (TJ); Package / Case: DO-214AA, SMB; Packaging: TapeAndReel; PartId: 10583; Part Status: Active; Price: 0.11; Series: TransZorb®; Supplier 1: DigiKey; Supplier Part Number 1: SMBJ60A-E3/5BGICT-ND; Supplier Device Package: DO-214AA (SMBJ); Voltage - Clamping (Max) @ Ipp: 96.8V; Voltage - Reverse Standoff (Typ): 60V
footprint DO214AA SMB
pins: 1, 2

## SMBJ60A-E3/52
designator D?
TVS DIODE 60V 96.8V DO214AA; Manufacturer: Vishay Semiconductor Diodes Division; Current - Peak Pulse (10/1000µs): 6.2A; Power Line Protection: No; Power - Peak Pulse: 600W; Type: Zener; Unidirectional Channels: 1; Voltage - Breakdown (Min): 66.7V; Part Number: SMBJ60A-E3/52; Applications: General Purpose; ComponentLink1Description: Datasheet; ComponentLink1URL: http://www.vishay.com/docs/88392/smbj.pdf; ComponentLink2Description: DigiKey Link; ComponentLink2URL: http://digikey.com/product-detail/en/vishay-semiconductor-diodes-division/SMBJ60A-E3-52/SMBJ60A-E3-52GICT-ND/2413480; LastUpdated: 9/2/2020 1:19:51 AM; Lifecycle Status: Active; Minimum Order: 1; Mounting Type: Surface Mount; Operating Temperature: -55°C ~ 150°C (TJ); Package / Case: DO-214AA, SMB; Packaging: TapeAndReel; PartId: 11384; Part Status: Active; Price: 0.15; Series: TransZorb®; Supplier 1: DigiKey; Supplier Part Number 1: SMBJ60A-E3/52GICT-ND; Supplier Device Package: DO-214AA (SMBJ); Voltage - Clamping (Max) @ Ipp: 96.8V; Voltage - Reverse Standoff (Typ): 60V
footprint DO214AA SMB
pins: 1, 2

## SMBJ60A-TP
designator D?
TVS DIODE 60V 96.8V DO214AA; Manufacturer: Micro Commercial Co; Current - Peak Pulse (10/1000µs): 6.2A; Power Line Protection: No; Power - Peak Pulse: 600W; Type: Zener; Unidirectional Channels: 1; Voltage - Breakdown (Min): 66.7V; Part Number: SMBJ60A-TP; Applications: General Purpose; ComponentLink1Description: Datasheet; ComponentLink1URL: https://www.mccsemi.com/pdf/Products/SMBJ5.0-SMBJ440CA(DO-214AA).pdf; ComponentLink2Description: DigiKey Link; ComponentLink2URL: http://digikey.com/product-detail/en/micro-commercial-co/SMBJ60A-TP/SMBJ60A-TPMSCT-ND/1200695; LastUpdated: 9/2/2020 1:19:48 AM; Lifecycle Status: Active; Minimum Order: 1; Mounting Type: Surface Mount; Operating Temperature: -55°C ~ 175°C (TJ); Package / Case: DO-214AA, SMB; Packaging: TapeAndReel; PartId: 11079; Part Status: Active; Price: 0.10; Series: -; Supplier 1: DigiKey; Supplier Part Number 1: SMBJ60A-TPMSCT-ND; Supplier Device Package: DO-214AA (SMB); Voltage - Clamping (Max) @ Ipp: 96.8V; Voltage - Reverse Standoff (Typ): 60V
footprint DO214AA SMB
pins: 1, 2

## SMBJ60CA
designator D?
TVS DIODE 60V 96.8V DO214AA; Manufacturer: Taiwan Semiconductor Corporation; Bidirectional Channels: 1; Current - Peak Pulse (10/1000µs): 6.2A; Power Line Protection: No; Power - Peak Pulse: 600W; Type: Zener; Voltage - Breakdown (Min): 66.7V; Part Number: SMBJ60CA; Applications: General Purpose; ComponentLink1Description: Datasheet; ComponentLink1URL: https://www.taiwansemi.com/products/datasheet/SMBJ5V0CA_F%20SERIES_A1806.pdf; ComponentLink2Description: DigiKey Link; ComponentLink2URL: http://digikey.com/product-detail/en/taiwan-semiconductor-corporation/SMBJ60CA/SMBJ60CAFSCT-ND/3504444; LastUpdated: 9/2/2020 1:28:17 AM; Lifecycle Status: Active; Minimum Order: 1; Mounting Type: Surface Mount; Operating Temperature: -55°C ~ 150°C (TJ); Package / Case: DO-214AA, SMB; Packaging: TapeAndReel; PartId: 9058; Part Status: Active; Price: 0.15; Series: SMBJ; Supplier 1: DigiKey; Supplier Part Number 1: SMBJ60CAFSCT-ND; Supplier Device Package: DO-214AA (SMB); Voltage - Clamping (Max) @ Ipp: 96.8V; Voltage - Reverse Standoff (Typ): 60V
footprint DO214AA SMB
pins: 1, 2

## SMBJ60CA-13-F
designator D?
TVS DIODE 60V 96.8V SMB; Manufacturer: Diodes Incorporated; Bidirectional Channels: 1; Current - Peak Pulse (10/1000µs): 6.2A; Power Line Protection: No; Power - Peak Pulse: 600W; Type: Zener; Voltage - Breakdown (Min): 66.7V; Part Number: SMBJ60CA-13-F; Applications: General Purpose; ComponentLink1Description: Datasheet; ComponentLink1URL: https://www.diodes.com/assets/Datasheets/ds19002.pdf; ComponentLink2Description: DigiKey Link; ComponentLink2URL: http://digikey.com/product-detail/en/diodes-incorporated/SMBJ60CA-13-F/SMBJ60CA-FDICT-ND/725078; LastUpdated: 9/2/2020 1:28:19 AM; Lifecycle Status: Active; Minimum Order: 1; Mounting Type: Surface Mount; Operating Temperature: -55°C ~ 150°C (TJ); Package / Case: DO-214AA, SMB; Packaging: TapeAndReel; PartId: 9294; Part Status: Active; Price: 0.10; Series: SMBJ; Supplier 1: DigiKey; Supplier Part Number 1: SMBJ60CA-FDICT-ND; Supplier Device Package: SMB; Voltage - Clamping (Max) @ Ipp: 96.8V; Voltage - Reverse Standoff (Typ): 60V
footprint DO214AA SMB
pins: 1, 2

## SMBJ60CA-E3/5B
designator D?
TVS DIODE 60V 96.8V DO214AA; Manufacturer: Vishay Semiconductor Diodes Division; Bidirectional Channels: 1; Current - Peak Pulse (10/1000µs): 6.2A; Power Line Protection: No; Power - Peak Pulse: 600W; Type: Zener; Voltage - Breakdown (Min): 66.7V; Part Number: SMBJ60CA-E3/5B; Applications: General Purpose; ComponentLink1Description: Datasheet; ComponentLink1URL: http://www.vishay.com/docs/88392/smbj.pdf; ComponentLink2Description: DigiKey Link; ComponentLink2URL: http://digikey.com/product-detail/en/vishay-semiconductor-diodes-division/SMBJ60CA-E3-5B/SMBJ60CA-E3-5BGICT-ND/7915523; LastUpdated: 9/2/2020 1:28:17 AM; Lifecycle Status: Active; Minimum Order: 1; Mounting Type: Surface Mount; Operating Temperature: -55°C ~ 150°C (TJ); Package / Case: DO-214AA, SMB; Packaging: TapeAndReel; PartId: 9017; Part Status: Active; Price: 0.12; Series: TransZorb®; Supplier 1: DigiKey; Supplier Part Number 1: SMBJ60CA-E3/5BGICT-ND; Supplier Device Package: DO-214AA (SMBJ); Voltage - Clamping (Max) @ Ipp: 96.8V; Voltage - Reverse Standoff (Typ): 60V
footprint DO214AA SMB
pins: 1, 2

## SMBJ60CA-E3/52
designator D?
TVS DIODE 60V 96.8V DO214AA; Manufacturer: Vishay Semiconductor Diodes Division; Bidirectional Channels: 1; Current - Peak Pulse (10/1000µs): 6.2A; Power Line Protection: No; Power - Peak Pulse: 600W; Type: Zener; Voltage - Breakdown (Min): 66.7V; Part Number: SMBJ60CA-E3/52; Applications: General Purpose; ComponentLink1Description: Datasheet; ComponentLink1URL: http://www.vishay.com/docs/88392/smbj.pdf; ComponentLink2Description: DigiKey Link; ComponentLink2URL: http://digikey.com/product-detail/en/vishay-semiconductor-diodes-division/SMBJ60CA-E3-52/SMBJ60CA-E3-52GICT-ND/2413449; LastUpdated: 9/2/2020 1:28:16 AM; Lifecycle Status: Active; Minimum Order: 1; Mounting Type: Surface Mount; Operating Temperature: -55°C ~ 150°C (TJ); Package / Case: DO-214AA, SMB; Packaging: TapeAndReel; PartId: 8954; Part Status: Active; Price: 0.19; Series: TransZorb®; Supplier 1: DigiKey; Supplier Part Number 1: SMBJ60CA-E3/52GICT-ND; Supplier Device Package: DO-214AA (SMBJ); Voltage - Clamping (Max) @ Ipp: 96.8V; Voltage - Reverse Standoff (Typ): 60V
footprint DO214AA SMB
pins: 1, 2

## SMBJ60CA-TP
designator D?
TVS DIODE 60V 96.8V DO214AA; Manufacturer: Micro Commercial Co; Bidirectional Channels: 1; Current - Peak Pulse (10/1000µs): 6.2A; Power Line Protection: No; Power - Peak Pulse: 600W; Type: Zener; Voltage - Breakdown (Min): 66.7V; Part Number: SMBJ60CA-TP; Applications: General Purpose; ComponentLink1Description: Datasheet; ComponentLink1URL: https://www.mccsemi.com/pdf/Products/SMBJ5.0-SMBJ440CA(DO-214AA).pdf; ComponentLink2Description: DigiKey Link; ComponentLink2URL: http://digikey.com/product-detail/en/micro-commercial-co/SMBJ60CA-TP/SMBJ60CA-TPMSCT-ND/1200696; LastUpdated: 9/2/2020 1:28:20 AM; Lifecycle Status: Active; Minimum Order: 1; Mounting Type: Surface Mount; Operating Temperature: -55°C ~ 175°C (TJ); Package / Case: DO-214AA, SMB; Packaging: TapeAndReel; PartId: 9421; Part Status: Active; Price: 0.10; Series: -; Supplier 1: DigiKey; Supplier Part Number 1: SMBJ60CA-TPMSCT-ND; Supplier Device Package: DO-214AA (SMB); Voltage - Clamping (Max) @ Ipp: 96.8V; Voltage - Reverse Standoff (Typ): 60V
footprint DO214AA SMB
pins: 1, 2